# Altium schematic symbol library Funcgen.SchLib: 19 symbols
Pins are listed as number, name and electrical type; pins without a type are passive.

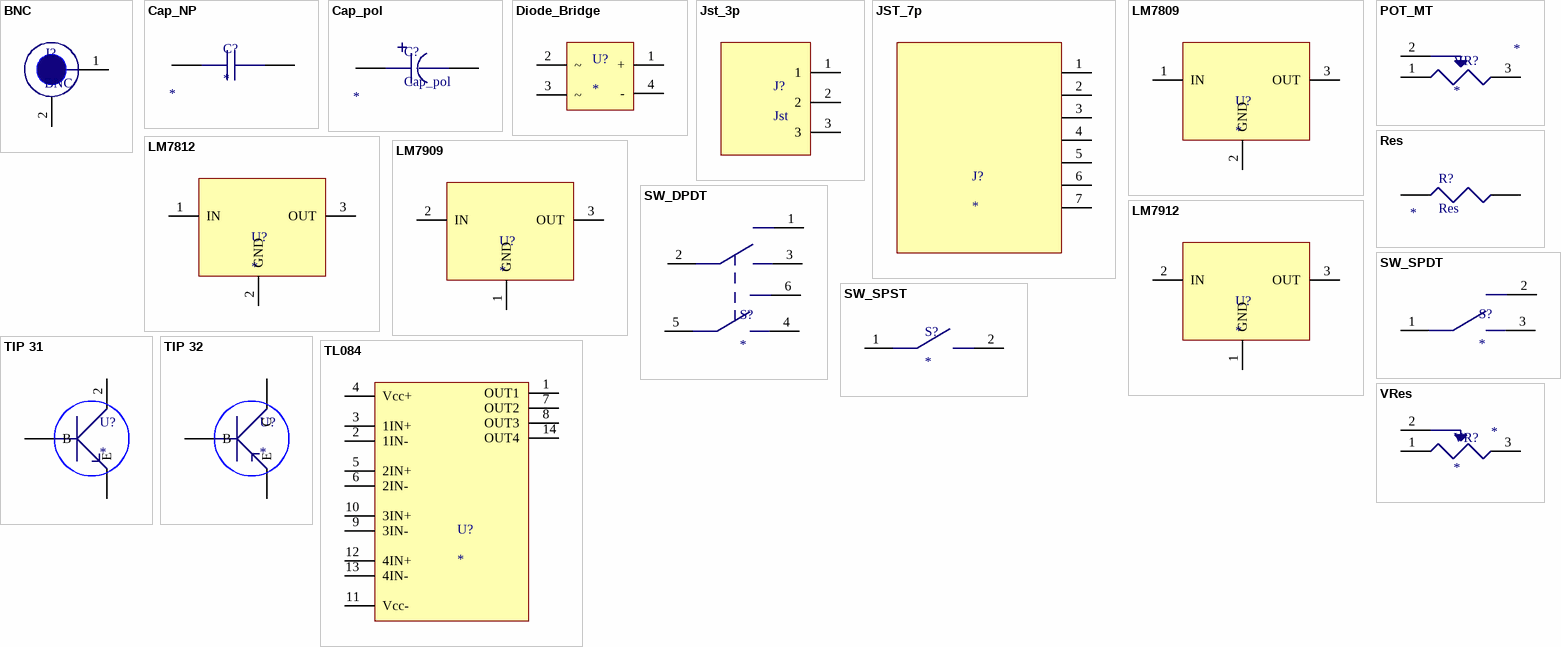
[diagram p0: symbols BNC to VRes]

## BNC
designator J?
footprint BNC
pins: 1, 2

## Cap_NP
designator C?
Value: *
footprint Cap NP
pins: 1, 2

## Cap_pol
designator C?
Value: *
footprint Cap pol
pins: 1, 2

## Diode_Bridge
designator U?
footprint Diode Bridge 2
pins: 1 +, 2 ~, 3 ~, 4 -

## Jst_3p
designator J?, comment Jst
footprint Jst_3p
pins: 1, 2, 3

## JST_7p
designator J?
footprint JST_7p
pins: 1, 2, 3, 4, 5, 6, 7

## LM7809
designator U?
footprint TIP 31
pins: 1 IN, 2 GND, 3 OUT

## LM7812
designator U?
footprint TIP 31
pins: 1 IN, 2 GND, 3 OUT

## LM7909
designator U?
footprint TIP 31
pins: 1 GND, 2 IN, 3 OUT

## LM7912
designator U?
footprint TIP 31
pins: 1 GND, 2 IN, 3 OUT

## POT_MT
designator VR?
Value: *
footprint POT MT
pins: 1, 2, 3

## Res
designator R?
Value: *
footprint Res
pins: 1, 2

## SW_DPDT
designator S?
footprint SW DPDT
pins: 1, 2, 3, 4, 5, 6

## SW_SPDT
designator S?
pins: 1, 2, 3

## SW_SPST
designator S?
pins: 1, 2

## TIP 31
designator U?
footprint TIP 31
pins: 1 B, 2 3, 3 E

## TIP 32
designator U?
footprint TIP 31
pins: 1 B, 2 C, 3 E

## TL084
designator U?
footprint TL084
pins: 1 OUT1, 2 1IN-, 3 1IN+, 4 Vcc+, 5 2IN+, 6 2IN-, 7 OUT2, 8 OUT3, 9 3IN-, 10 3IN+, 11 Vcc-, 12 4IN+, 13 4IN-, 14 OUT4

## VRes
designator VR?
Value: *
footprint VerRes
pins: 1, 2, 3